# Altium footprint library Resistors_rus.PCBLIB: 80 footprints (part 3 of 5)
Each footprint in its own frame and in the unit in brackets; x right, y up, seen from the top. Pads: shape width x height; smd on the part's side, far side on the other; paste and mask are expansions set on the pad; w line width, h text height; cw(c..) or ccw(c..) is an arc to the next point about the centre after c.
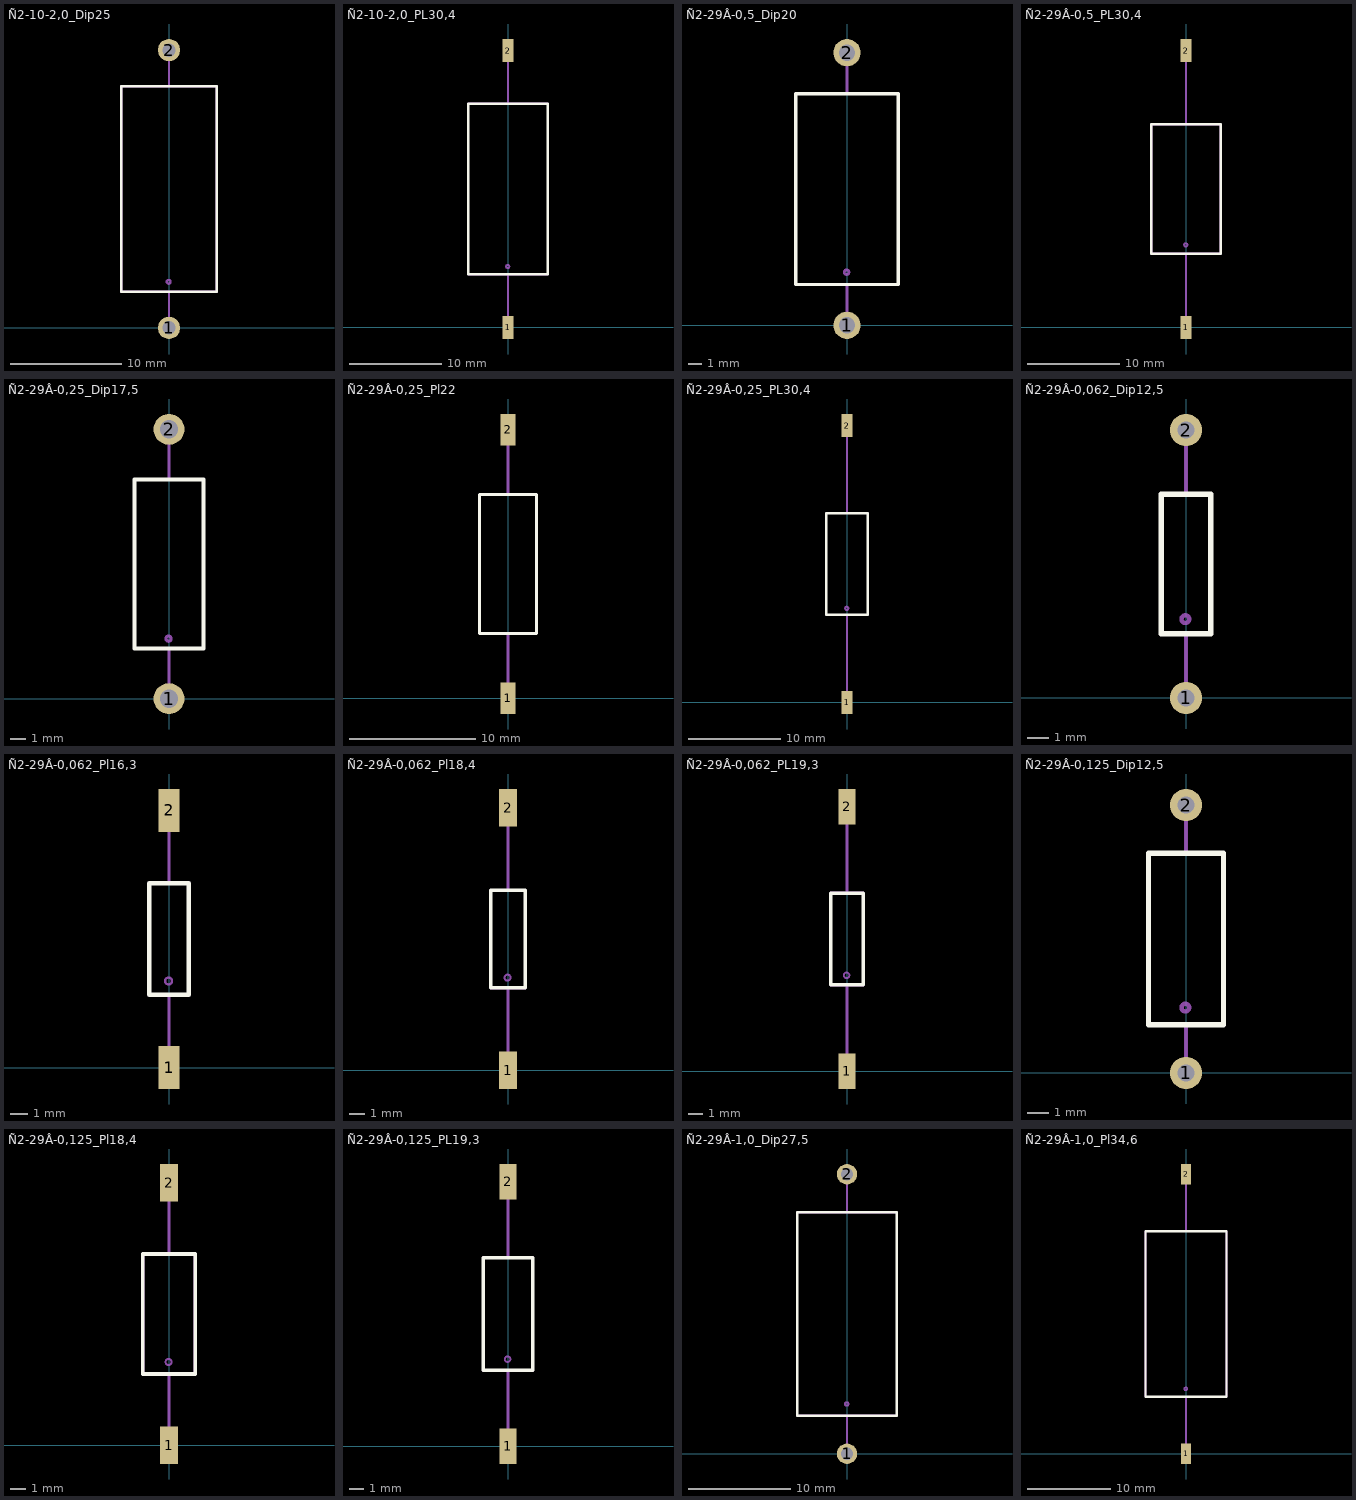
[diagram p2: the footprints below, top view; thin cyan lines are the x and y axes]

## Ñ2-10-2,0_Dip25 [mm]
pads (2):
  round 2 hole 1.2: 1(0,0) 2(0,25)
Top Overlay:
  lines w0.25: -4.3,3.25 -4.3,21.75 4.3,21.75 4.3,3.25 -4.3,3.25
Mechanical 1:
  circle w0.2: c-0.03,4.15 r0.17
  lines w0.2: 0,0 0,3.25 ; 0,21.75 0,25 ; -4.3,3.25 -4.3,21.75 4.3,21.75 4.3,3.25 -4.3,3.25
  text ".Designator" at 0.4,11.1 h1.5
3D body: height 8.6, standoff -3, extent -4.3,-0.4 4.3,25.4

## Ñ2-10-2,0_PL30,4 [mm]
pads (2):
  rect 1.2x2.5 smd: 1(0,0) 2(0,30)
Top Overlay:
  lines w0.25: -4.3,5.75 4.3,5.75 4.3,24.25 -4.3,24.25 -4.3,5.75
Mechanical 1:
  circle w0.2: c-0.03,6.6 r0.18
  lines w0.2: 0,-0.2 0,5.75 ; 0,24.25 0,30.2 ; -4.3,5.75 4.3,5.75 4.3,24.25 -4.3,24.25 -4.3,5.75
  text ".Designator" at 0.4,13.6 h1.5
3D body: height 8.6, standoff 0, extent -4.4,-0.2 4.2,30.2

## Ñ2-29Â-0,5_Dip20 [mm]
pads (2):
  round 2 hole 1.2: 1(0,0) 2(0,20)
Top Overlay:
  lines w0.25: -3.75,3 -3.75,17 3.75,17 3.75,3 -3.75,3
Mechanical 1:
  circle w0.2: c-0.03,3.9 r0.17
  lines w0.2: 0,0 0,3 ; 0,17 0,20 ; -3.75,3 -3.75,17 3.75,17 3.75,3 -3.75,3
  text ".Designator" at 0.4,8.6 h1.5
3D body: height 7.5, standoff -3, extent -3.75,-0.4 3.75,20.4

## Ñ2-29Â-0,5_PL30,4 [mm]
pads (2):
  rect 1.2x2.5 smd: 1(0,0) 2(0,30)
Top Overlay:
  lines w0.25: -3.75,8 3.75,8 3.75,22 -3.75,22 -3.75,8
Mechanical 1:
  circle w0.2: c-0.03,8.95 r0.18
  lines w0.2: 0,-0.2 0,8 ; 0,22 0,30.2 ; -3.75,8 3.75,8 3.75,22 -3.75,22 -3.75,8
  text ".Designator" at 0.4,12.85 h1.5
3D body: height 7.5, standoff 0, extent -3.75,-0.2 3.75,30.2

## Ñ2-29Â-0,25_Dip17,5 [mm]
pads (2):
  round 2 hole 1.2: 1(0,0) 2(0,17.5)
Top Overlay:
  lines w0.25: -2.25,3.25 2.25,3.25 2.25,14.25 -2.25,14.25 -2.25,3.25
Mechanical 1:
  circle w0.2: c-0.03,3.9 r0.17
  lines w0.2: 0,0 0,3.25 ; 0,14.25 0,17.5 ; -2.25,3.25 2.25,3.25 2.25,14.25 -2.25,14.25 -2.25,3.25
  text ".Designator" at 0.4,7.35 h1.5
3D body: height 4.5, standoff -3, extent -2.25,-0.4 2.25,17.9

## Ñ2-29Â-0,25_Pl22 [mm]
pads (2):
  rect 1.2x2.5 smd: 1(0,0) 2(0,21.25)
Top Overlay:
  lines w0.25: -2.25,5.125 2.25,5.125 2.25,16.125 -2.25,16.125 -2.25,5.125
Mechanical 1:
  lines w0.2: 0,-0.375 0,5.125 ; 0,16.125 0,21.625 ; -2.25,5.125 2.25,5.125 2.25,16.125 -2.25,16.125 -2.25,5.125
  text ".Designator" at 0.4,9.1 h1.5
3D body: height 4.5, standoff 0, extent -2.25,-0.375 2.25,21.625

## Ñ2-29Â-0,25_PL30,4 [mm]
pads (2):
  rect 1.2x2.5 smd: 1(0,0) 2(0,30)
Top Overlay:
  lines w0.25: -2.25,9.5 2.25,9.5 2.25,20.5 -2.25,20.5 -2.25,9.5
Mechanical 1:
  circle w0.2: c-0.03,10.2 r0.18
  lines w0.2: 0,-0.2 0,9.5 ; 0,20.5 0,30.2 ; -2.25,9.5 2.25,9.5 2.25,20.5 -2.25,20.5 -2.25,9.5
  text ".Designator" at 0.4,13.6 h1.5
3D body: height 4.5, standoff 0, extent -2.25,-0.2 2.25,30.2

## Ñ2-29Â-0,062_Dip12,5 [mm]
pads (2):
  round 1.5 hole 0.8: 1(0,0) 2(0,12.5)
Top Overlay:
  lines w0.25: -1.15,3 -1.15,9.5 1.15,9.5 1.15,3 -1.15,3
Mechanical 1:
  circle w0.2: c-0.03,3.675 r0.18
  lines w0.2: 0,0 0,3 ; 0,9.5 0,12.5 ; -1.15,3 -1.15,9.5 1.15,9.5 1.15,3 -1.15,3
  text ".Designator" at 0.4,4.85 h1.5
3D body: height 2.2, standoff -3, extent -1.1,-0.3 1.1,12.8

## Ñ2-29Â-0,062_Pl16,3 [mm]
pads (2):
  rect 1.2x2.5 smd: 1(0,0) 2(0,15)
Top Overlay:
  lines w0.25: -1.15,4.25 -1.15,10.75 1.15,10.75 1.15,4.25 -1.15,4.25
Mechanical 1:
  circle w0.13: c-0.03,5.05 r0.2
  lines w0.2: 0,-0.65 0,4.25 ; 0,10.75 0,15.65 ; -1.15,4.25 -1.15,10.75 1.15,10.75 1.15,4.25 -1.15,4.25
  text ".Designator" at 0.4,6.1 h1.5
3D body: height 2.2, standoff 0, extent -1.1,-0.65 1.1,15.65

## Ñ2-29Â-0,062_Pl18,4 [mm]
pads (2):
  rect 1.2x2.5 smd: 1(0,0) 2(0,17.5)
Top Overlay:
  lines w0.25: -1.15,5.5 1.15,5.5 1.15,12 -1.15,12 -1.15,5.5
Mechanical 1:
  circle w0.13: c-0.03,6.175 r0.2
  lines w0.2: 0,-0.45 0,5.5 ; 0,12 0,17.95 ; -1.15,5.5 1.15,5.5 1.15,12 -1.15,12 -1.15,5.5
  text ".Designator" at 0.4,7.35 h1.5
3D body: height 2.2, standoff 0, extent -1.1,-0.45 1.1,17.95

## Ñ2-29Â-0,062_PL19,3 [mm]
pads (2):
  rect 1.2x2.5 smd: 1(0,0) 2(0,18.75)
Top Overlay:
  lines w0.25: -1.15,6.125 -1.15,12.625 1.15,12.625 1.15,6.125 -1.15,6.125
Mechanical 1:
  circle w0.13: c-0.03,6.8 r0.2
  lines w0.2: 0,-0.275 0,6.125 ; 0,12.625 0,19.025 ; -1.15,6.125 -1.15,12.625 1.15,12.625 1.15,6.125 -1.15,6.125
  text ".Designator" at 0.4,7.85 h1.5
3D body: height 2.2, standoff 0, extent -1.1,-0.275 1.1,19.025

## Ñ2-29Â-0,125_Dip12,5 [mm]
pads (2):
  round 1.5 hole 0.8: 1(0,0) 2(0,12.5)
Top Overlay:
  lines w0.25: -1.75,2.25 -1.75,10.25 1.75,10.25 1.75,2.25 -1.75,2.25
Mechanical 1:
  circle w0.2: c-0.03,3.05 r0.18
  lines w0.2: 0,0 0,2.25 ; 0,10.25 0,12.5 ; -1.75,2.25 -1.75,10.25 1.75,10.25 1.75,2.25 -1.75,2.25
  text ".Designator" at 0.4,4.6 h1.5
3D body: height 3.5, standoff -3, extent -1.75,-0.299 1.736,12.799

## Ñ2-29Â-0,125_Pl18,4 [mm]
pads (2):
  rect 1.2x2.5 smd: 1(0,0) 2(0,17.5)
Top Overlay:
  lines w0.25: -1.75,4.75 1.75,4.75 1.75,12.75 -1.75,12.75 -1.75,4.75
Mechanical 1:
  circle w0.13: c-0.03,5.55 r0.2
  lines w0.2: 0,-0.45 0,4.75 ; 0,12.75 0,17.95 ; -1.75,4.75 1.75,4.75 1.75,12.75 -1.75,12.75 -1.75,4.75
  text ".Designator" at 0.4,7.35 h1.5
3D body: height 3.5, standoff 0, extent -1.74,-0.449 1.746,17.951

## Ñ2-29Â-0,125_PL19,3 [mm]
pads (2):
  rect 1.2x2.5 smd: 1(0,0) 2(0,18.75)
Top Overlay:
  lines w0.25: -1.75,5.375 -1.75,13.375 1.75,13.375 1.75,5.375 -1.75,5.375
Mechanical 1:
  circle w0.13: c-0.03,6.175 r0.2
  lines w0.2: 0,-0.275 0,5.375 ; 0,13.375 0,19.025 ; -1.75,5.375 -1.75,13.375 1.75,13.375 1.75,5.375 -1.75,5.375
  text ".Designator" at 0.4,7.85 h1.5
3D body: height 3.5, standoff 0, extent -1.745,-0.272 1.741,19.028

## Ñ2-29Â-1,0_Dip27,5 [mm]
pads (2):
  round 2 hole 1.2: 1(0,0) 2(0,27.5)
Top Overlay:
  lines w0.25: -4.9,3.75 4.9,3.75 4.9,23.75 -4.9,23.75 -4.9,3.75
Mechanical 1:
  circle w0.2: c-0.03,4.9 r0.17
  lines w0.2: 0,0 0,3.75 ; 0,23.75 0,27.5 ; -4.9,3.75 4.9,3.75 4.9,23.75 -4.9,23.75 -4.9,3.75
  text ".Designator" at 0.4,12.1 h1.5
3D body: height 9.8, standoff -3, extent -5.002,-0.424 4.798,28.076

## Ñ2-29Â-1,0_Pl34,6 [mm]
pads (2):
  rect 1.2x2.5 smd: 1(0,0) 2(0,33.75)
Top Overlay:
  lines w0.25: -4.9,6.875 -4.9,26.875 4.9,26.875 4.9,6.875 -4.9,6.875
Mechanical 1:
  circle w0.2: c-0.03,7.825 r0.18
  lines w0.2: 0,-0.425 0,6.875 ; 0,26.875 0,34.175 ; -4.9,6.875 -4.9,26.875 4.9,26.875 4.9,6.875 -4.9,6.875
  text ".Designator" at 0.4,15.35 h1.5
3D body: height 9.8, standoff -0.1, extent -4.9,-0.425 4.9,34.175